# Altium footprint library PcbLib1.PcbLib: 64 footprints (part 1 of 4)
Each footprint in its own frame and in the unit in brackets; x right, y up, seen from the top. Pads: shape width x height; smd on the part's side, far side on the other; paste and mask are expansions set on the pad; w line width, h text height; cw(c..) or ccw(c..) is an arc to the next point about the centre after c.
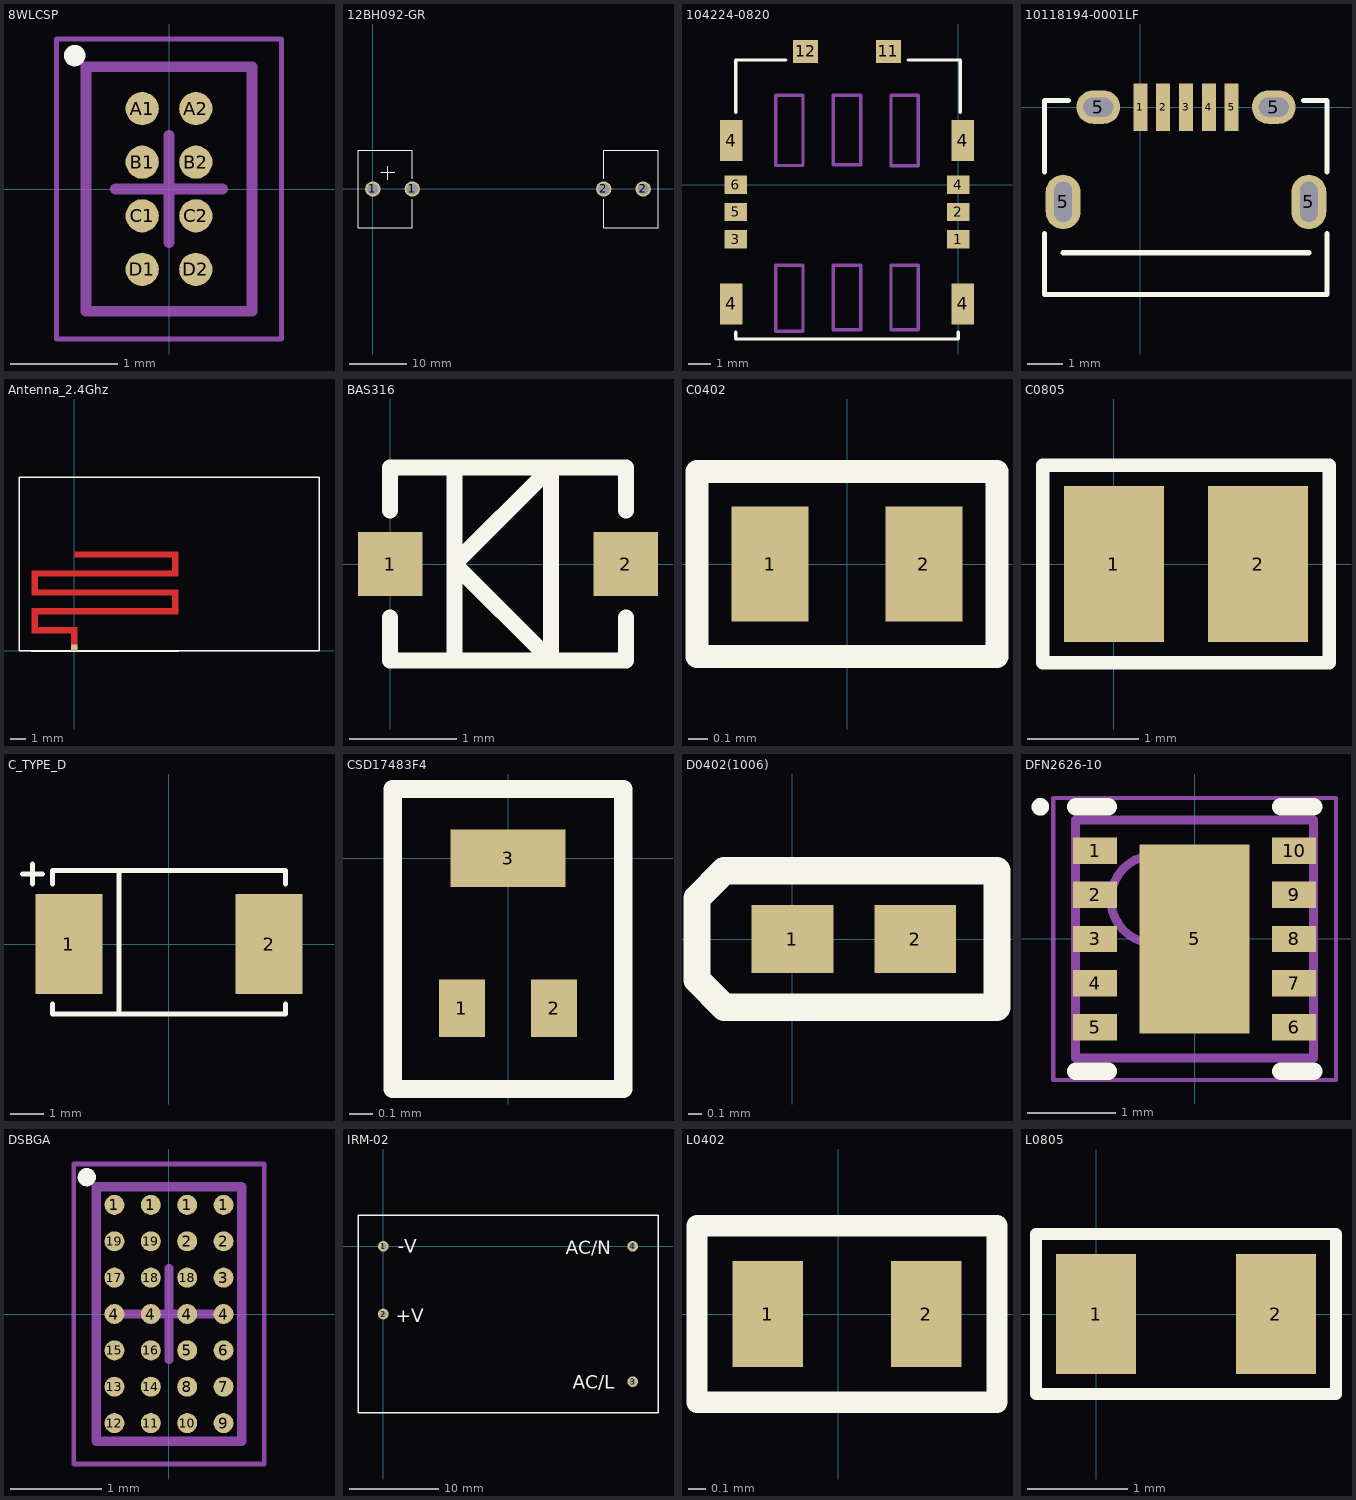
[diagram p0: the footprints below, top view; thin cyan lines are the x and y axes]

## 8WLCSP [mm]
height 0.28
pads (8):
  round 0.31 smd: A1(-0.25,0.75) A2(0.25,0.75) B1(-0.25,0.25) B2(0.25,0.25) C1(-0.25,-0.25) C2(0.25,-0.25) D1(-0.25,-0.75) D2(0.25,-0.75)
Top Overlay:
  circle w0.1: c-0.88,1.245 r0.05
Mechanical 13:
  lines w0.1: -0.775,-1.14 -0.775,1.14 0.775,1.14 0.775,-1.14 -0.775,-1.14
Mechanical 15:
  lines w0.05: -1.05,-1.4 -1.05,1.4 1.05,1.4 1.05,-1.4 -1.05,-1.4
  lines w0.1: -0.5,0 0.5,0 ; 0,-0.5 0,0.5
3D body: height 0.28, standoff 0.2, extent -0.775,-1.14 0.775,1.14

## 12BH092-GR [mm]
pads (4):
  round 2.7 hole 2: 1(0,0) 1(6.9,0) 2(40.4,0) 2(47.3,0)
Top Overlay:
  lines w0.2: 1.4,2.9 3.8,2.9 ; 2.6,1.6 2.6,4 ; 6.9,-1.8 6.9,-6.8 -2.6,-6.8 -2.6,6.8 6.9,6.8 6.9,1.8 ; 40.4,-1.8 40.4,-6.8 49.9,-6.8 49.9,6.8 40.4,6.8 40.4,1.8

## 104224-0820 [mm]
pads (12):
  rect 1x0.8 smd: 1(0,-2.4) 2(0,-1.2) 3(-9.8,-2.4) 4(0,0) 5(-9.8,-1.2) 6(-9.8,0)
  rect 1x1.8 smd: 4(-10,-5.25) 4(-10,1.95) 4(0.2,-5.25) 4(0.2,1.95)
  rect 1.1x1 smd: 11(-3.08,5.875) 12(-6.72,5.875)
Top Overlay:
  lines w0.15: -9.8,-6.5 -9.8,-6.8 0,-6.8 0,-6.5 ; -9.8,3.2 -9.8,5.5 -7.6,5.5 ; -2.2,5.5 0,5.5 0.1,5.5 0.1,3.2
Mechanical 13:
  lines w0.15: -8.04,-6.45 -8.04,-3.55 -6.84,-3.55 -6.84,-6.45 -8.04,-6.45 ; -8.04,0.85 -8.04,3.95 -6.84,3.95 -6.84,0.85 -8.04,0.85 ; -5.5,-6.4 -5.5,-3.55 -4.3,-3.55 -4.3,-6.4 -5.5,-6.4 ; -5.5,0.88 -4.3,0.88 -4.3,3.95 -5.5,3.95 -5.5,0.88 ; -2.96,-6.4 -2.96,-3.55 -1.76,-3.55 -1.76,-6.4 -2.96,-6.4 ; -2.96,0.84 -1.76,0.84 -1.76,3.94 -2.96,3.94 -2.96,0.84

## 10118194-0001LF [mm]
pads (9):
  rect 0.4x1.35 smd: 1(0,0) 2(0.65,0) 3(1.3,0) 4(1.95,0) 5(2.6,0)
  oval 1x1.55 hole 1.15 slot 0.5 at 0 deg: 5(-2.2,-2.7) 5(4.8,-2.7)
  oval 1.25x0.95 hole 0.85 slot 0.55 at 90 deg: 5(-1.2,0) 5(3.8,0)
Top Overlay:
  lines w0.15: -2.73,-3.6 -2.73,-5.34 5.32,-5.34 5.32,-3.6 ; -2.73,-1.85 -2.73,0.19 -2.05,0.19 ; -2.2,-4.15 4.8,-4.15 ; 4.65,0.19 5.32,0.19 5.32,-1.85

## Antenna_2.4Ghz [mm]
pads (1):
  rect 0.4x0.4 smd: 1(0,0.2)
Top Layer:
  rectangle: 0,5.9 0.4,6.3
  rectangle: 6.2,5.9 6.6,6.3
  rectangle: 6.2,4.7 6.6,5.1
  rectangle: -2.7,4.7 -2.3,5.1
  rectangle: -2.7,3.5 -2.3,3.9
  rectangle: 6.2,3.5 6.6,3.9
  rectangle: 6.2,2.3 6.6,2.7
  rectangle: -2.7,2.3 -2.3,2.7
  rectangle: -2.7,1.1 -2.3,1.5
  rectangle: -0.2,1.1 0.2,1.5
  lines w0.4: 0,0.2 0,1.3 -2.5,1.3 -2.5,2.5 6.4,2.5 6.4,3.7 -2.5,3.7 -2.5,4.9 6.4,4.9 6.4,6.1 0.2,6.1
Top Overlay:
  lines w0.08: -2.7,0 -3.5,0 -3.5,11 15.5,11 15.5,0 6.6,0
  lines w0.12: -2.7,0 6.6,0

## BAS316 [mm]
pads (2):
  rect 0.6x0.6 smd: 1(0,0) 2(2.2,0)
Top Overlay:
  lines w0.15: 0,-0.5 0,-0.9 2.2,-0.9 2.2,-0.5 ; 0,0.5 0,0.9 2.2,0.9 2.2,0.5 ; 0.6,-0.9 0.6,0.9 ; 0.6,0 1.5,-0.9 1.5,0.9 0.6,0

## C0402 [mm]
pads (2):
  rect 0.4x0.6 smd: 1(-0.4,0) 2(0.4,0)
Top Overlay:
  lines w0.12: -0.78,-0.48 0.78,-0.48 0.78,0.48 -0.78,0.48 -0.78,-0.48

## C0805 [mm]
pads (2):
  rect 0.9x1.4 smd: 1(0,0) 2(1.3,0)
Top Overlay:
  lines w0.12: -0.64,-0.89 -0.64,0.89 1.94,0.89 1.94,-0.89 -0.64,-0.89

## C_TYPE_D [mm]
pads (2):
  rect 2x3 smd: 1(-3,0) 2(3,0)
Top Overlay:
  lines w0.15: -4.4,2.1 -3.8,2.1 ; -4.1,1.8 -4.1,2.4 ; -3.5,-1.8 -3.5,-2.1 3.5,-2.1 3.5,-1.8 ; -3.5,1.8 -3.5,2.2 3.5,2.2 3.5,1.8 ; -1.6,2.2 -1.5,2.2 -1.5,-2

## CSD17483F4 [mm]
pads (3):
  rect 0.2x0.25 smd: 1(-0.2,-0.65) 2(0.2,-0.65)
  rect 0.5x0.25 smd: 3(0,0)
Top Overlay:
  lines w0.08: -0.5,-1 0.5,-1 0.5,0.3 -0.5,0.3 -0.5,-1

## D0402(1006) [mm]
pads (2):
  rect 0.6x0.5 smd: 1(0,0) 2(0.9,0)
Top Overlay:
  lines w0.2: -0.7,-0.3 -0.7,0.3 -0.5,0.5 1.5,0.5 1.5,-0.5 -0.5,-0.5 -0.7,-0.3

## DFN2626-10 [mm]
height 0.5
pads (11):
  rect 0.5x0.3 smd: 1(-1.13,1) 2(-1.13,0.5) 3(-1.13,0) 4(-1.13,-0.5) 5(-1.13,-1) 6(1.13,-1) 7(1.13,-0.5) 8(1.13,0) 9(1.13,0.5) 10(1.13,1)
  rect 1.25x2.15 smd: 5(0,0)
Top Overlay:
  circle w0.1: c-1.75,1.5 r0.05
  lines w0.2: -1.35,-1.5 -0.98,-1.5 ; -1.35,1.5 -0.98,1.5 ; 0.98,-1.5 1.35,-1.5 ; 0.98,1.5 1.35,1.5
Mechanical 13:
  circle w0.1: c-0.45,0.45 r0.5
  lines w0.1: -1.35,-1.35 1.35,-1.35 1.35,1.35 -1.35,1.35 -1.35,-1.35
Mechanical 15:
  lines w0.05: -1.605,-1.6 1.605,-1.6 1.605,1.6 -1.605,1.6 -1.605,-1.6
  lines w0.1: -0.5,0 0.5,0 ; 0,-0.5 0,0.5
3D body: height 0.5, standoff 0.05, extent -1.35,-1.35 1.35,1.35

## DSBGA [mm] "DSBGA"
height 0.19
pads (28):
  round 0.22 smd: 1(-0.6,1.2) 1(-0.2,1.2) 1(0.2,1.2) 1(0.6,1.2) 2(0.2,0.8) 2(0.6,0.8) 3(0.6,0.4) 4(-0.6,0) 4(-0.2,0) 4(0.2,0) 4(0.6,0) 5(0.2,-0.4) 6(0.6,-0.4) 7(0.6,-0.8) 8(0.2,-0.8) 9(0.6,-1.2) 10(0.2,-1.2) 11(-0.2,-1.2) 12(-0.6,-1.2) 13(-0.6,-0.8) 14(-0.2,-0.8) 15(-0.6,-0.4) 16(-0.2,-0.4) 17(-0.6,0.4) 18(-0.2,0.4) 18(0.2,0.4) 19(-0.6,0.8) 19(-0.2,0.8)
Top Overlay:
  circle w0.1: c-0.905,1.505 r0.05
Mechanical 13:
  lines w0.1: -0.8,-1.4 -0.8,1.4 0.8,1.4 0.8,-1.4 -0.8,-1.4
Mechanical 15:
  lines w0.05: -1.05,-1.65 -1.05,1.65 1.05,1.65 1.05,-1.65 -1.05,-1.65
  lines w0.1: -0.5,0 0.5,0 ; 0,-0.5 0,0.5
3D body: height 0.3, standoff 0.19, extent -0.8,-1.4 0.8,1.4

## IRM-02 [mm]
pads (4):
  round 1.2 hole 0.7: 1(0,0) 2(0,-7.6) 3(28,-15.2) 4(28,0)
Top Overlay:
  lines w0.15: -2.85,-18.7 -2.85,3.5 30.85,3.5 30.85,-18.7 -2.85,-18.7
  text "AC/L" at 21.3,-16 h1.52
  text "AC/N" at 20.5,-0.9 h1.52
  text "+V" at 1.4,-8.5 h1.52
  text "-V" at 1.6,-0.7 h1.52

## L0402 [mm]
pads (2):
  rect 0.4x0.6 smd: 1(-0.4,0) 2(0.5,0)
Top Overlay:
  lines w0.12: -0.8,-0.5 0.9,-0.5 0.9,0.5 -0.8,0.5 -0.8,-0.5

## L0805 [mm]
pads (2):
  rect 0.8x1.2 smd: 1(0,0) 2(1.8,0)
Top Overlay:
  lines w0.12: -0.6,-0.8 2.4,-0.8 2.4,0.8 -0.6,0.8 -0.6,-0.8